# Altium schematic symbol library Passive.SchLib: 6 symbols
Pins are listed as number, name and electrical type; pins without a type are passive.

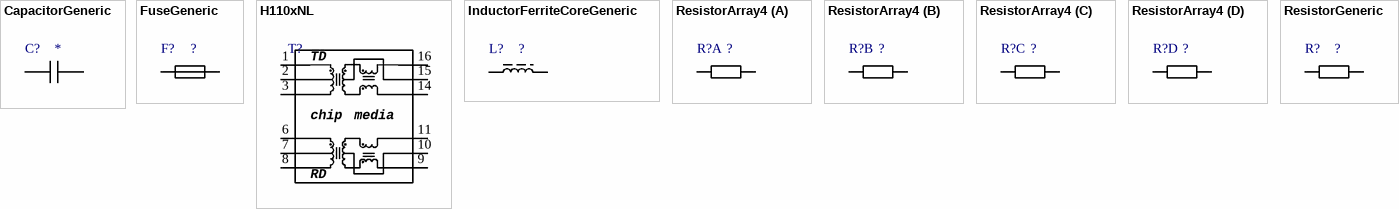
[diagram p0: symbols CapacitorGeneric to ResistorGeneric]

## CapacitorGeneric
designator C?
Name: *
pins: 1, 2

## FuseGeneric
designator F?, comment ?
Name: ?
pins: 1, 2

## H110xNL
designator T?
pins: 1, 2, 3, 4 NC hidden, 5 NC hidden, 6, 7, 8, 9, 10, 11, 12 NC hidden, 13 NC hidden, 14, 15, 16
text: TD; chip; media; RD

## InductorFerriteCoreGeneric
designator L?, comment ?
Name: ?
pins: 1, 2

## ResistorArray4
designator R?, comment ?
Name: ?
part A pins: 1A, 2A
part B pins: 1B, 2B
part C pins: 1C, 2C
part D pins: 1D, 2D

## ResistorGeneric
designator R?, comment ?
Name: ?
pins: 1, 2